# EAGLE library part PROTOSPACE2 (library parts)
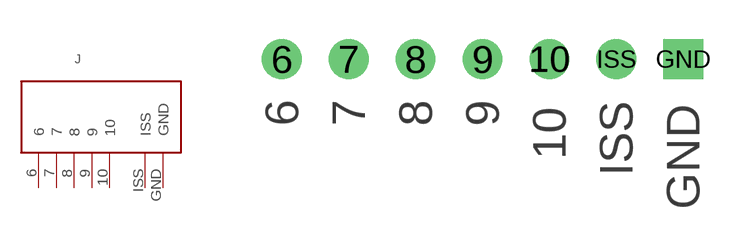
[diagram p7: symbol with the pads of PROTOSPACE2; footprint PROTOSPACE2]

Designator prefix J

## PROTOSPACE2  [PROTOSPACE2]
6  6
7  7
8  8
9  9
10  10
GND  GND
ISS  ISS

## Footprint PROTOSPACE2 (pad centres in mm)
drill 1 round: 6 -7.62,0; 7 -5.08,0; 8 -2.54,0; 9 0,0; 10 2.54,0; ISS 5.08,0
drill 1 square: GND 7.62,0